# Altium schematic symbol library GENERIC_P_MOSFET_DSG.Schlib: 1 symbol
Pins are listed as number, name and electrical type; pins without a type are passive.

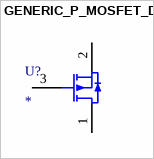
[diagram p0: symbol GENERIC_P_MOSFET_DSG]

## GENERIC_P_MOSFET_DSG
designator U?
pins: 1 D, 2 S, 3 G